# EAGLE library part USB_C (library USB C Vertical)
USB Type C 14Pin Connector Suitable for USB 3.0 applications. D1 and D2 are tied together enabling D+/- no matter which way the cable is plugged into the connector. The two channel configuration pins (CC1/2) are exposed. These are normally connected to ground via 5.1k resistors but can be reconfigured for high current/high power applications. **4-LAYER BOARD WARNING!!** If designing 4-layer board, make sure to select the variant _4-LAYER-ISOLATED. The linked footprint (USB-C-16-4LAYER-ISOLATED) includes some very necessary cutout polygons in the inner layers (2 and 15). This prevents the PTH mounting shield legs on the USB connector from electrically connecting any other polygons on the inner layers (usually VCC and GND).
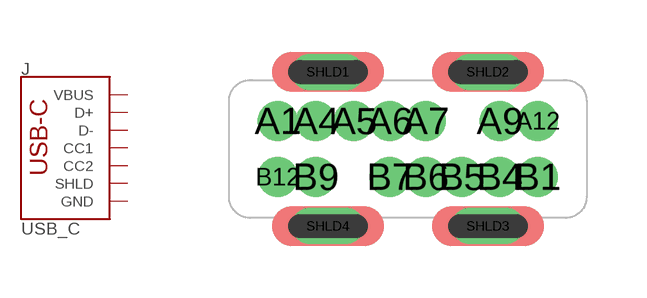
[diagram p0: symbol with the pads of USB-C-8P-2LAYER-VERTICAL-PTH; footprint USB-C-8P-2LAYER-VERTICAL-PTH]

Designator prefix J

## USB_C_2-LAYER-VERTICAL-PTH (PROD_ID: IC-)  [USB-C-8P-2LAYER-VERTICAL-PTH]
A1  GND
A4  VBUS
A5  CC1
A6  D+
A7  D-
A9  VBUS
A12  GND
B1  GND
B4  VBUS
B5  CC2
B6  D+
B7  D-
B9  VBUS
B12  GND
SHLD1  SHLD
SHLD2  SHLD
SHLD3  SHLD
SHLD4  SHLD

## Footprint USB-C-8P-2LAYER-VERTICAL-PTH (pad centres in mm)
drill 0.5 pad 0.8: A1 -3.25,0.7; A4 -2.3,0.7; A5 -1.35,0.7; A6 -0.45,0.7; A7 0.45,0.7; A9 2.3,0.7; A12 3.25,0.7; B1 3.25,-0.7; B4 2.3,-0.7; B5 1.35,-0.7; B6 0.45,-0.7; B7 -0.45,-0.7; B9 -2.3,-0.7; B12 -3.25,-0.7
drill 0.4 pad 0.6 long: SHLD1 -2,1.93; SHLD2 2,1.93; SHLD3 2,-1.93; SHLD4 -2,-1.93